# Altium schematic symbol library Schematic Library.SchLib: 2 symbols
Pins are listed as number, name and electrical type; pins without a type are passive.

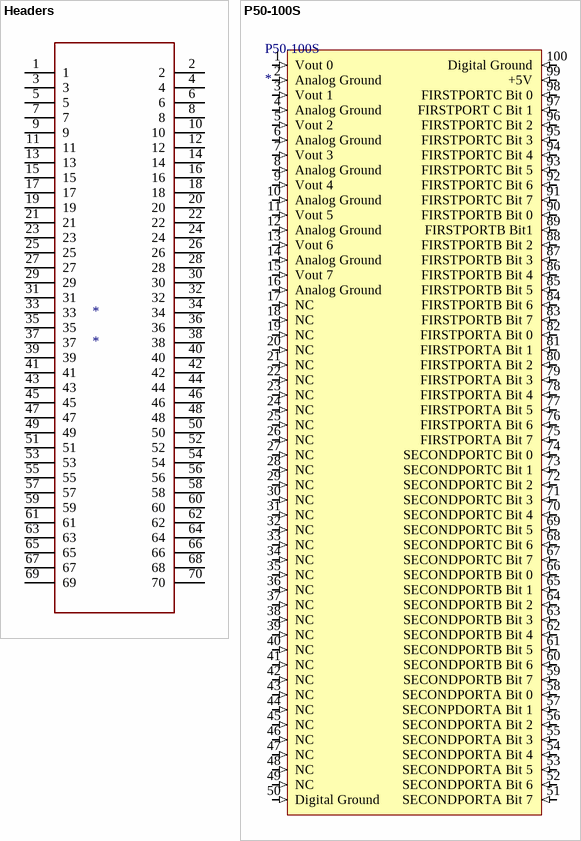
[diagram p0: symbols Headers to P50-100S]

## Headers
designator *
footprint HTSW-135-07-G-D
pins: 1, 2, 3, 4, 5, 6, 7, 8, 9, 10, 11, 12, 13, 14, 15, 16, 17, 18, 19, 20, 21, 22, 23, 24, 25, 26, 27, 28, 29, 30, 31, 32, 33, 34, 35, 36, 37, 38, 39, 40, 41, 42, 43, 44, 45, 46, 47, 48, 49, 50, 51, 52, 53, 54, 55, 56, 57, 58, 59, 60, 61, 62, 63, 64, 65, 66, 67, 68, 69, 70

## P50-100S
designator P50-100S
footprint P50-100S-R1-EA
pins: 1 Vout 0 (in), 2 Analog Ground (in), 3 Vout 1 (in), 4 Analog Ground (in), 5 Vout 2 (in), 6 Analog Ground (in), 7 Vout 3 (in), 8 Analog Ground (in), 9 Vout 4 (in), 10 Analog Ground (in), 11 Vout 5 (in), 12 Analog Ground  (in), 13 Vout 6 (in), 14 Analog Ground (in), 15 Vout 7 (in), 16 Analog Ground (in), 17 NC (in), 18 NC (in), 19 NC (in), 20 NC (in), 21 NC (in), 22 NC (in), 23 NC (in), 24 NC (in), 25 NC (in), 26 NC (in), 27 NC (in), 28 NC (in), 29 NC (in), 30 NC (in), 31 NC (in), 32 NC (in), 33 NC (in), 34 NC (in), 35 NC (in), 36 NC (in), 37 NC (in), 38 NC (in), 39 NC (in), 40 NC (in), 41 NC (in), 42 NC (in), 43 NC (in), 44 NC (in), 45 NC (in), 46 NC (in), 47 NC (in), 48 NC (in), 49 NC (in), 50 Digital Ground (in), 51 SECONDPORTA Bit 7 (in), 52 SECONDPORTA Bit 6 (in), 53 SECONDPORTA Bit 5 (in), 54 SECONDPORTA Bit 4 (in), 55 SECONDPORTA Bit 3 (in), 56 SECONDPORTA Bit 2 (in), 57 SECONPDORTA Bit 1 (in), 58 SECONDPORTA Bit 0 (in), 59 SECONDPORTB Bit 7 (in), 60 SECONDPORTB Bit 6 (in), 61 SECONDPORTB Bit 5 (in), 62 SECONDPORTB Bit 4 (in), 63 SECONDPORTB Bit 3 (in), 64 SECONDPORTB Bit 2 (in), 65 SECONDPORTB Bit 1 (in), 66 SECONDPORTB Bit 0 (in), 67 SECONDPORTC Bit 7 (in), 68 SECONDPORTC Bit 6 (in), 69 SECONDPORTC Bit 5 (in), 70 SECONDPORTC Bit 4 (in), 71 SECONDPORTC Bit 3 (in), 72 SECONDPORTC Bit 2 (in), 73 SECONDPORTC Bit 1 (in), 74 SECONDPORTC Bit 0 (in), 75 FIRSTPORTA Bit 7 (in), 76 FIRSTPORTA Bit 6 (in), 77 FIRSTPORTA Bit 5 (in), 78 FIRSTPORTA Bit 4 (in), 79 FIRSTPORTA Bit 3 (in), 80 FIRSTPORTA Bit 2 (in), 81 FIRSTPORTA Bit 1 (in), 82 FIRSTPORTA Bit 0 (in), 83 FIRSTPORTB Bit 7 (in), 84 FIRSTPORTB Bit 6 (in), 85 FIRSTPORTB Bit 5 (in), 86 FIRSTPORTB Bit 4 (in), 87 FIRSTPORTB Bit 3 (in), 88 FIRSTPORTB Bit 2 (in), 89 FIRSTPORTB Bit1 (in), 90 FIRSTPORTB Bit 0 (in), 91 FIRSTPORTC Bit 7 (in), 92 FIRSTPORTC Bit 6 (in), 93 FIRSTPORTC Bit 5 (in), 94 FIRSTPORTC Bit 4 (in), 95 FIRSTPORTC Bit 3 (in), 96 FIRSTPORTC Bit 2 (in), 97 FIRSTPORT C Bit 1 (in), 98 FIRSTPORTC Bit 0 (in), 99 +5V (in), 100 Digital Ground (in)